# Altium schematic symbol library micron.SCHLIB: 1 symbol
Pins are listed as number, name and electrical type; pins without a type are passive.

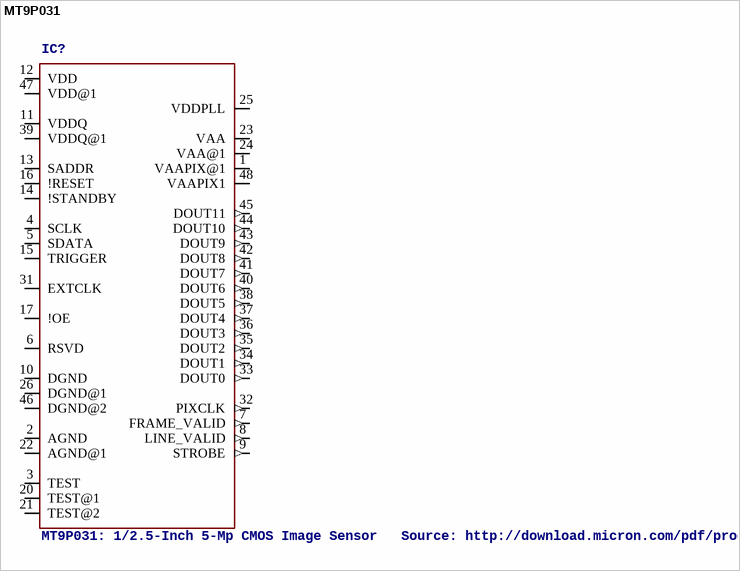
[diagram p0: symbol MT9P031]

## MT9P031
designator IC?, comment MT9P031: 1/2.5-Inch 5-Mp CMOS Image Sensor   Source: http://download.micron.com/pdf/product_brief/MT9P031_5100_PB.pdf
MPN: MT9P031I12STM; OC_FARNELL: 1695390; OC_NEWARK: 80P6535
footprint ILCC48
pins: 1 VAAPIX@1 (power), 2 AGND (power), 3 TEST, 4 SCLK, 5 SDATA, 6 RSVD, 7 FRAME_VALID (out), 8 LINE_VALID (out), 9 STROBE (out), 10 DGND (power), 11 VDDQ (power), 12 VDD (power), 13 SADDR, 14 !STANDBY, 15 TRIGGER, 16 !RESET, 17 !OE, 20 TEST@1, 21 TEST@2, 22 AGND@1 (power), 23 VAA (power), 24 VAA@1 (power), 25 VDDPLL (power), 26 DGND@1 (power), 31 EXTCLK, 32 PIXCLK (out), 33 DOUT0 (out), 34 DOUT1 (out), 35 DOUT2 (out), 36 DOUT3 (out), 37 DOUT4 (out), 38 DOUT5 (out), 39 VDDQ@1 (power), 40 DOUT6 (out), 41 DOUT7 (out), 42 DOUT8 (out), 43 DOUT9 (out), 44 DOUT10 (out), 45 DOUT11 (out), 46 DGND@2 (power), 47 VDD@1 (power), 48 VAAPIX1 (power)